# Altium schematic symbol library TPS22953DQCR.SchLib: 1 symbol
Pins are listed as number, name and electrical type; pins without a type are passive.

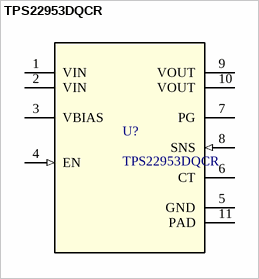
[diagram p0: symbol TPS22953DQCR]

## TPS22953DQCR
designator U?
5.7-V, 5-A, 14-mÎ© load switch with adj. rise time, -Voltage monitoring 10-WSON -40 to 105; Manufacturer_Name: Texas Instruments; CompType: IC; TYPE: TYPE; RefDes: RefDes; Copyright: Copyright (C) 2025 Ultra Librarian. All rights reserved.; Manufacturer_Part_Number: TPS22953DQCR; Application_BuildNumber: *; PartNumber: TPS22953DQCR; PackageReference: DQC0010A; MountType: SMT; RoHS: Y; Manufacturer: Texas Instruments
footprint DQC0010A
pins: 1 VIN (power), 2 VIN (power), 3 VBIAS (power), 4 EN (in), 5 GND (power), 6 CT, 7 PG (oc), 8 SNS (in), 9 VOUT (power), 10 VOUT (power), 11 PAD